# Altium footprint library SENSORS.PcbLib: 4 footprints
Each footprint in its own frame and in the unit in brackets; x right, y up, seen from the top. Pads: shape width x height; smd on the part's side, far side on the other; paste and mask are expansions set on the pad; w line width, h text height; cw(c..) or ccw(c..) is an arc to the next point about the centre after c.
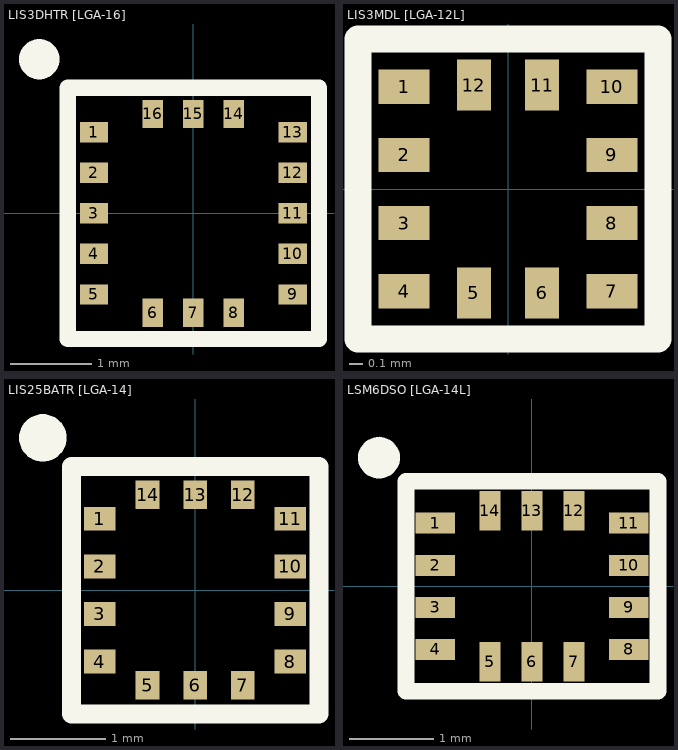
[diagram p0: the footprints below, top view; thin cyan lines are the x and y axes]

## LIS3DHTR [LGA-16] [mm]
pads (17):
  rect 0.35x0.25 smd: 1(-1.225,1) 2(-1.225,0.5) 3(-1.225,0) 4(-1.225,-0.5) 5(-1.225,-1) 9(1.225,-1) 10(1.225,-0.5) 11(1.225,0) 12(1.225,0.5) 13(1.225,1)
  rect 0.25x0.35 smd: 6(-0.5,-1.225) 7(0,-1.225) 8(0.5,-1.225) 14(0.5,1.225) 15(0,1.225) 16(-0.5,1.225)
  round 0.5 on Top Overlay: ""(-1.9,1.9)
Top Overlay:
  lines w0.2: -1.55,-1.55 -1.55,1.55 1.55,1.55 1.55,-1.55 -1.55,-1.55
3D body "LIS3DHTR_LGA_16.STEP": height 1, standoff 0, extent -1.5,-1.5 1.5,1.5

## LIS3MDL [LGA-12L] [mm]
pads (12):
  rect 0.375x0.25 smd mask+0.05: 1(-0.763,0.75) 2(-0.763,0.25) 3(-0.763,-0.25) 4(-0.763,-0.75) 7(0.763,-0.75) 8(0.763,-0.25) 9(0.763,0.25) 10(0.763,0.75)
  rect 0.25x0.375 smd mask+0.05: 5(-0.25,-0.763) 6(0.25,-0.763) 11(0.25,0.763) 12(-0.25,0.763)
Top Overlay:
  lines w0.2: -1.1,-1.1 1.1,-1.1 1.1,1.1 -1.1,1.1 -1.1,-1.1
3D body "LIS3MDL_LGA_12L.STEP": height 1, standoff 0, extent -1,-1 1,1

## LIS25BATR [LGA-14] [mm]
pads (15):
  rect 0.33x0.25 smd: 1(-1,0.75) 2(-1,0.25) 3(-1,-0.25) 4(-1,-0.75) 8(1,-0.75) 9(1,-0.25) 10(1,0.25) 11(1,0.75)
  rect 0.25x0.3 smd: 5(-0.5,-1) 6(0,-1) 7(0.5,-1) 12(0.5,1) 13(0,1) 14(-0.5,1)
  round 0.5 on Top Overlay: ""(-1.6,1.6)
Top Overlay:
  lines w0.2: -1.3,-1.3 1.3,-1.3 1.3,1.3 -1.3,1.3 -1.3,-1.3
3D body "LIS25BATR_LGA_14.STEP": height 0.86, standoff 0, extent -1.25,-1.25 1.25,1.25

## LSM6DSO [LGA-14L] [mm]
pads (15):
  rect 0.47x0.25 smd: 1(-1.15,0.75) 2(-1.15,0.25) 3(-1.15,-0.25) 4(-1.15,-0.75) 8(1.15,-0.75) 9(1.15,-0.25) 10(1.15,0.25) 11(1.15,0.75)
  rect 0.25x0.47 smd: 5(-0.5,-0.9) 6(0,-0.9) 7(0.5,-0.9) 12(0.5,0.9) 13(0,0.9) 14(-0.5,0.9)
  round 0.5 on Top Overlay: ""(-1.82,1.53)
Top Overlay:
  lines w0.2: -1.5,-1.25 1.5,-1.25 1.5,1.25 -1.5,1.25 -1.5,-1.25
3D body "LSM6DSOX_LGA_14_L.STEP": height 0.86, standoff 0, extent -1.5,-1.25 1.5,1.25